# EAGLE library part PIC32MX270F256D (library HW2_library)
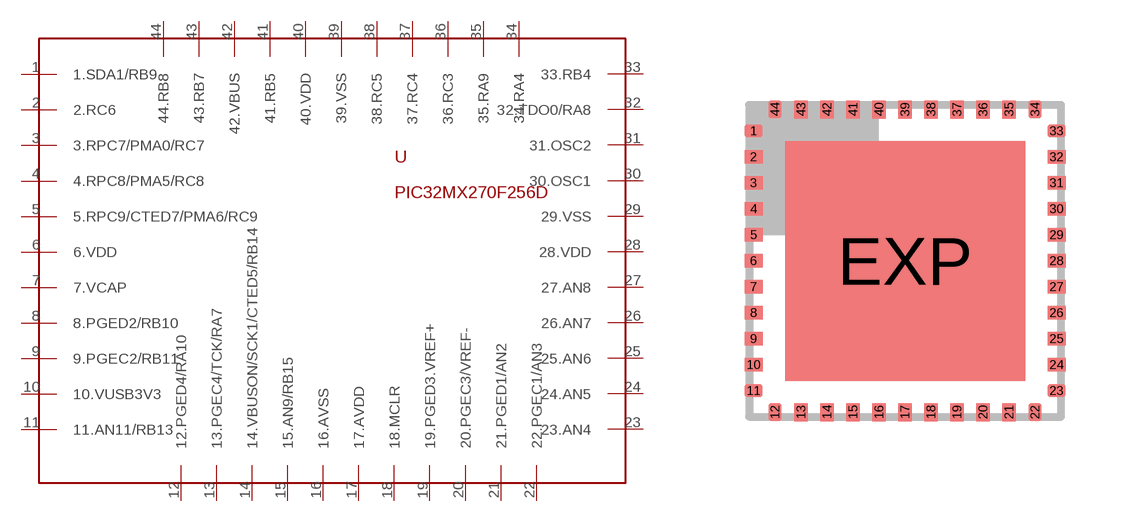
[diagram p2: symbol with the pads of QFN44ML8X8; footprint QFN44ML8X8]

Designator prefix -

## PIC32MX270F256D  [QFN44ML8X8]
1  1.SDA1/RB9
2  2.RC6
3  3.RPC7/PMA0/RC7
4  4.RPC8/PMA5/RC8
5  5.RPC9/CTED7/PMA6/RC9
6  6.VDD
7  7.VCAP
8  8.PGED2/RB10
9  9.PGEC2/RB11
10  10.VUSB3V3
11  11.AN11/RB13
12  12.PGED4/RA10
13  13.PGEC4/TCK/RA7
14  14.VBUSON/SCK1/CTED5/RB14
15  15.AN9/RB15
16  16.AVSS
17  17.AVDD
18  18.MCLR
19  19.PGED3.VREF+
20  20.PGEC3/VREF-
21  21.PGED1/AN2
22  22.PGEC1/AN3
23  23.AN4
24  24.AN5
25  25.AN6
26  26.AN7
27  27.AN8
28  28.VDD
29  29.VSS
30  30.OSC1
31  31.OSC2
32  32.TDO0/RA8
33  33.RB4
34  34.RA4
35  35.RA9
36  36.RC3
37  37.RC4
38  38.RC5
39  39.VSS
40  40.VDD
41  41.RB5
42  42.VBUS
43  43.RB7
44  44.RB8

## Footprint QFN44ML8X8 (pad centres in mm)
44-Lead Plastic Quad Flat No Lead Package (ML) 8x8 mm Body (QFN) Source: http://ww1.microchip.com/downloads/en/devicedoc/39632c.pdf
smd 0.45 x 0.33: 1 -3.788,3.25; 2 -3.788,2.6; 3 -3.788,1.95; 4 -3.788,1.3; 5 -3.788,0.65; 6 -3.788,0; 7 -3.788,-0.65; 8 -3.788,-1.3; 9 -3.788,-1.95; 10 -3.788,-2.6; 11 -3.788,-3.25; 23 3.788,-3.25; 24 3.788,-2.6; 25 3.788,-1.95; 26 3.788,-1.3; 27 3.788,-0.65; 28 3.788,0; 29 3.788,0.65; 30 3.788,1.3; 31 3.788,1.95; 32 3.788,2.6; 33 3.788,3.25
smd 0.33 x 0.45: 12 -3.25,-3.788; 13 -2.6,-3.788; 14 -1.95,-3.788; 15 -1.3,-3.788; 16 -0.65,-3.788; 17 0,-3.788; 18 0.65,-3.788; 19 1.3,-3.788; 20 1.95,-3.788; 21 2.6,-3.788; 22 3.25,-3.788; 34 3.25,3.788; 35 2.6,3.788; 36 1.95,3.788; 37 1.3,3.788; 38 0.65,3.788; 39 0,3.788; 40 -0.65,3.788; 41 -1.3,3.788; 42 -1.95,3.788; 43 -2.6,3.788; 44 -3.25,3.788
smd 6 x 6: EXP 0,0